# Altium footprint library WR-DC.PcbLib: 18 footprints (part 2 of 2)
Each footprint in its own frame and in the unit in brackets; x right, y up, seen from the top. Pads: shape width x height; smd on the part's side, far side on the other; paste and mask are expansions set on the pad; w line width, h text height; cw(c..) or ccw(c..) is an arc to the next point about the centre after c.
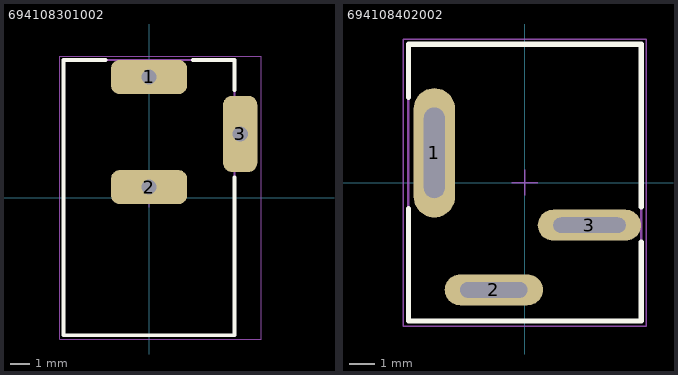
[diagram p1: the footprints below, top view; thin cyan lines are the x and y axes]

## 694108301002 [mm] "DC Power Jack Right Angled(6.4)"
height 10.7
pads (3):
  rrect50% 4x1.8 hole 0.8 square: 1(0,6.35) 2(0,0.55)
  rrect50% 1.8x4 hole 0.8 square: 3(4.8,3.35)
Top Overlay:
  lines w0.2: -2.3,7.25 -4.5,7.25 -4.5,-7.25 4.5,-7.25 4.5,1.05 ; 2.3,7.25 4.5,7.25 4.5,5.65
Top Designator:
  text ".Designator" at -7.498,-0.5 h1.5
Top Component Outline:
  lines w0.1: -4.5,-7.25 -4.5,7.25 4.5,7.25 4.5,-7.25 -4.5,-7.25
Top 3D Body:
  lines w0.1: -4.5,-7.25 4.5,-7.25 4.5,7.25 -4.5,7.25 -4.5,-7.25
Top Courtyard:
  lines w0.05: -0.5,0 0.5,0 ; 0,-0.5 0,0.5 ; -4.7,-7.45 -4.7,7.45 5.9,7.45 5.9,-7.45 -4.7,-7.45
3D body "694108301002.stp": height 10.75, standoff -3.75, extent -4.5,-7.25 5,7.25

## 694108402002 [mm] "DC Power Jack Vertical THT ?6.4"
height 14
pads (3):
  oval 1.6x5 hole 0.8 slot 3.5 at 90 deg: 1(-3.5,1.15)
  oval 3.8x1.2 hole 0.6 slot 2.6 at 0 deg: 2(-1.2,-4.15)
  oval 4x1.2 hole 0.6 slot 2.8 at 0 deg: 3(2.5,-1.65)
Top Overlay:
  lines w0.2: -4.5,-1 -4.5,-5.35 4.5,-5.35 4.5,-2.3 ; -4.5,3.3 -4.5,5.35 4.5,5.35 4.5,-0.95
Top Designator:
  text ".Designator" at -7.498,-0.5 h1.5
Top Component Outline:
  lines w0.1: -4.5,-5.35 4.5,-5.35 4.5,5.35 ; -4.5,-5.35 -4.5,5.35 4.5,5.35
Top 3D Body:
  lines w0.1: -4.5,-5.35 4.5,-5.35 4.5,5.35 ; -4.5,-5.35 -4.5,5.35 4.5,5.35
Top Courtyard:
  lines w0.05: -0.5,0 0.5,0 ; 0,-0.5 0,0.5 ; -4.7,-5.55 4.7,-5.55 4.7,5.55 -4.7,5.55 -4.7,-5.55
3D body "694108402002.stp": height 14.1, standoff -3.5, extent -4.5,-5.35 4.5,5.35